# Altium footprint library EEM_FMC_Carrier.PcbLib: 109 footprints (part 7 of 7)
Each footprint in its own frame and in the unit in brackets; x right, y up, seen from the top. Pads: shape width x height; smd on the part's side, far side on the other; paste and mask are expansions set on the pad; w line width, h text height; cw(c..) or ccw(c..) is an arc to the next point about the centre after c.
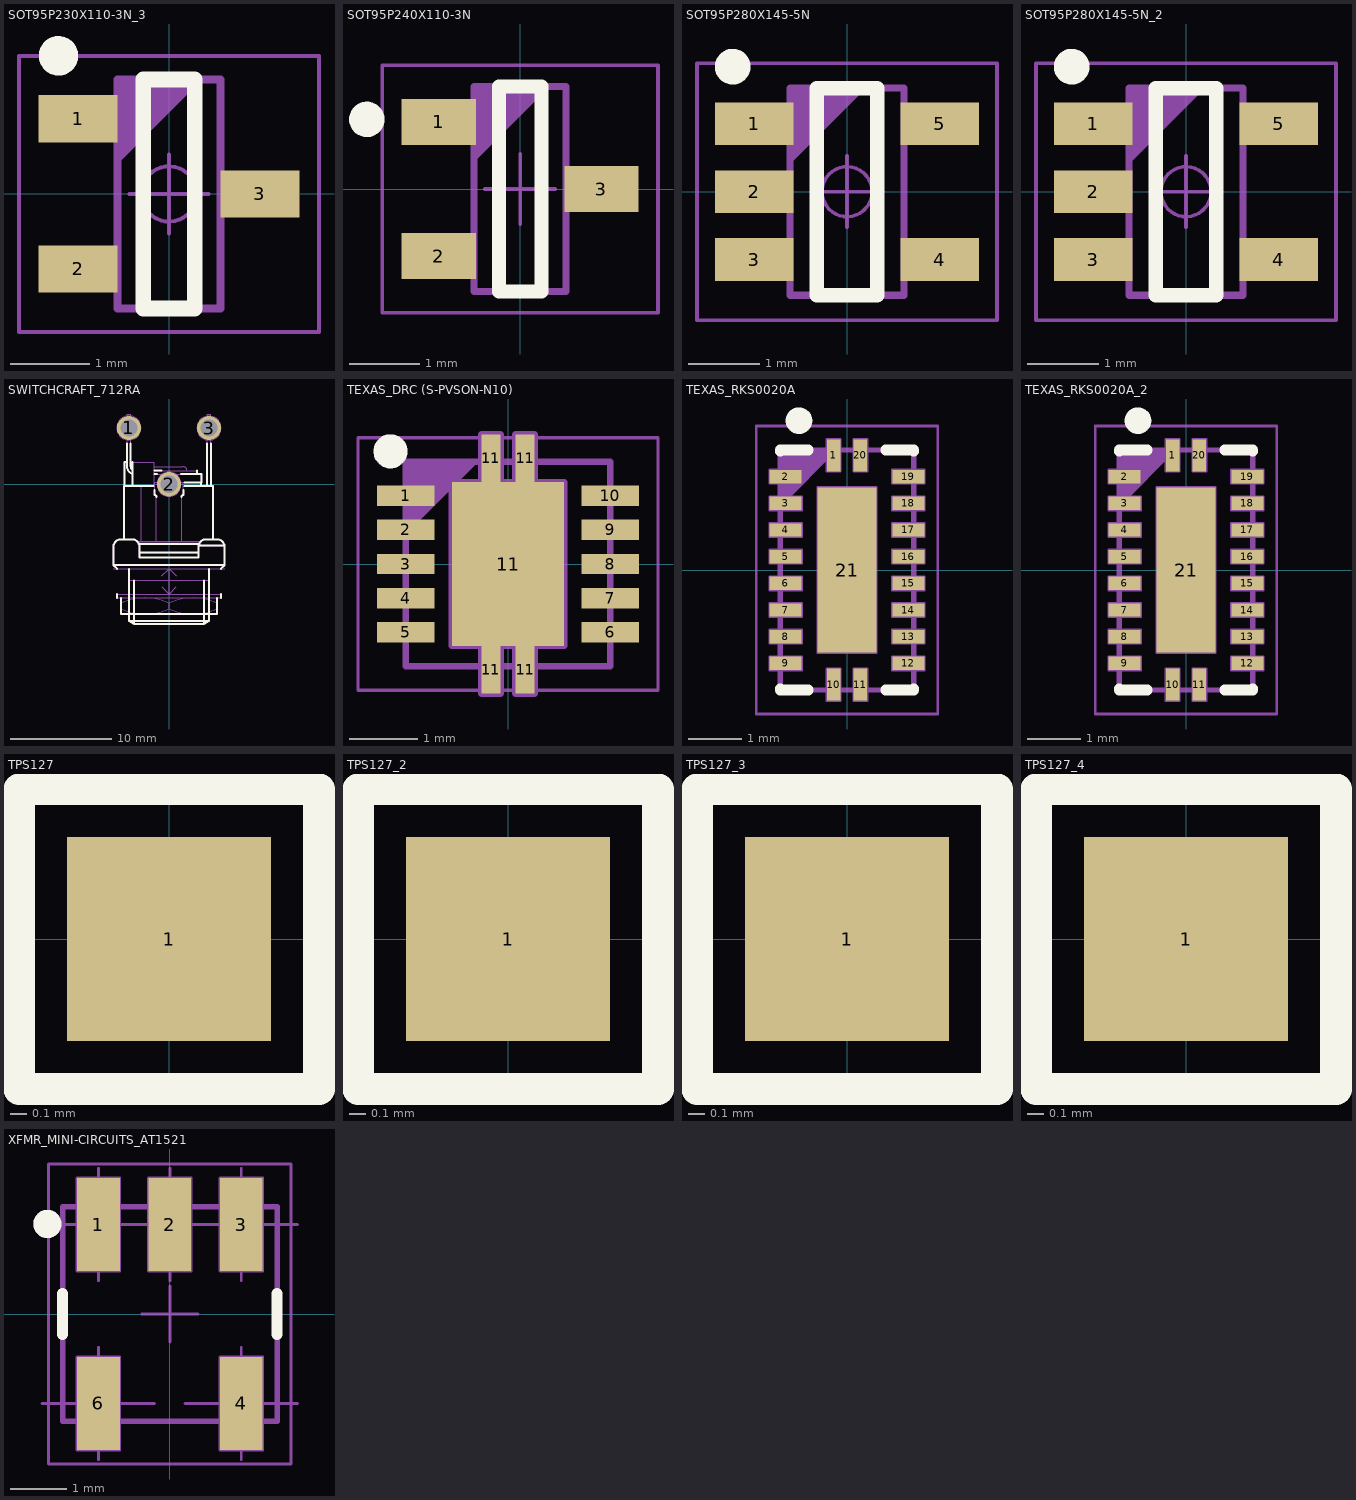
[diagram p6: the footprints below, top view; thin cyan lines are the x and y axes]

## SOT95P230X110-3N_3 [mm]
pads (3):
  rect 1x0.6 smd: 1(-1.15,0.95) 2(-1.15,-0.95) 3(1.15,0)
Top Overlay:
  circle w0.25: c-1.4,1.75 r0.125
  lines w0.2: -0.325,-1.45 0.325,-1.45 0.325,1.45 -0.325,1.45 -0.325,-1.45
Mechanical 14:
  lines w0.1: -0.65,0.45 0.35,1.45 ; -0.65,0.55 0.25,1.45 ; -0.65,0.65 0.15,1.45 ; -0.65,0.75 0.05,1.45 ; -0.65,0.85 -0.05,1.45 ; -0.65,0.95 -0.15,1.45 ; -0.65,1.05 -0.25,1.45 ; -0.65,1.15 -0.35,1.45 ; -0.65,1.25 -0.45,1.45 ; -0.65,1.35 -0.55,1.45 ; -0.65,-1.45 0.65,-1.45 0.65,1.45 -0.65,1.45 -0.65,-1.45
Mechanical 15:
  circle w0.05: c0,0 r0.35
  lines w0.05: -0.5,0 0.5,0 ; 0,-0.5 0,0.5 ; -1.9,-1.75 1.9,-1.75 1.9,1.75 -1.9,1.75 -1.9,-1.75
3D body "SOT95P230X110-3N.stp": height 1.1, standoff 0.01, extent -1.082,-1.5 1.25,1.5

## SOT95P240X110-3N [mm]
pads (3):
  rect 1.05x0.65 smd: 1(-1.15,0.95) 2(-1.15,-0.95) 3(1.15,0)
Top Overlay:
  circle w0.25: c-2.168,0.985 r0.125
  lines w0.2: -0.3,-1.45 -0.3,1.45 0.3,1.45 0.3,-1.45 -0.3,-1.45
Mechanical 14:
  lines w0.1: -0.65,0.45 0.35,1.45 ; -0.65,0.55 0.25,1.45 ; -0.65,0.65 0.15,1.45 ; -0.65,0.75 0.05,1.45 ; -0.65,0.85 -0.05,1.45 ; -0.65,0.95 -0.15,1.45 ; -0.65,1.05 -0.25,1.45 ; -0.65,1.15 -0.35,1.45 ; -0.65,1.25 -0.45,1.45 ; -0.65,1.35 -0.55,1.45 ; -0.65,-1.45 0.65,-1.45 0.65,1.45 -0.65,1.45 -0.65,-1.45
Mechanical 15:
  lines w0.05: -0.5,0 0.5,0 ; 0,-0.5 0,0.5 ; -1.95,-1.75 1.95,-1.75 1.95,1.75 -1.95,1.75 -1.95,-1.75
3D body "SOT95P240X110-3N.stp": height 1.1, standoff 0, extent -1.25,-1.5 1.25,1.5

## SOT95P280X145-5N [mm]
pads (5):
  rect 1.1x0.6 smd: 1(-1.3,0.95) 2(-1.3,0) 3(-1.3,-0.95) 4(1.3,-0.95) 5(1.3,0.95)
Top Overlay:
  circle w0.25: c-1.6,1.75 r0.125
  lines w0.2: -0.425,-1.45 -0.425,1.45 0.425,1.45 0.425,-1.45 -0.425,-1.45
Mechanical 14:
  lines w0.1: -0.8,0.45 0.2,1.45 ; -0.8,0.55 0.1,1.45 ; -0.8,0.65 0,1.45 ; -0.8,0.75 -0.1,1.45 ; -0.8,0.85 -0.2,1.45 ; -0.8,0.95 -0.3,1.45 ; -0.8,1.05 -0.4,1.45 ; -0.8,1.15 -0.5,1.45 ; -0.8,1.25 -0.6,1.45 ; -0.8,1.35 -0.7,1.45 ; -0.8,-1.45 -0.8,1.45 0.8,1.45 0.8,-1.45 -0.8,-1.45
Mechanical 15:
  circle w0.05: c0,0 r0.35
  lines w0.05: -0.5,0 0.5,0 ; 0,-0.5 0,0.5 ; -2.1,-1.8 -2.1,1.8 2.1,1.8 2.1,-1.8 -2.1,-1.8
3D body "SOT95P280X145-5N.stp": height 1.45, standoff 0, extent -1.4,-1.5 1.4,1.5

## SOT95P280X145-5N_2 [mm]
pads (5):
  rect 1.1x0.6 smd: 1(-1.3,0.95) 2(-1.3,0) 3(-1.3,-0.95) 4(1.3,-0.95) 5(1.3,0.95)
Top Overlay:
  circle w0.25: c-1.6,1.75 r0.125
  lines w0.2: -0.425,-1.45 -0.425,1.45 0.425,1.45 0.425,-1.45 -0.425,-1.45
Mechanical 14:
  lines w0.1: -0.8,0.45 0.2,1.45 ; -0.8,0.55 0.1,1.45 ; -0.8,0.65 0,1.45 ; -0.8,0.75 -0.1,1.45 ; -0.8,0.85 -0.2,1.45 ; -0.8,0.95 -0.3,1.45 ; -0.8,1.05 -0.4,1.45 ; -0.8,1.15 -0.5,1.45 ; -0.8,1.25 -0.6,1.45 ; -0.8,1.35 -0.7,1.45 ; -0.8,-1.45 -0.8,1.45 0.8,1.45 0.8,-1.45 -0.8,-1.45
Mechanical 15:
  circle w0.05: c0,0 r0.35
  lines w0.05: -0.5,0 0.5,0 ; 0,-0.5 0,0.5 ; -2.1,-1.8 -2.1,1.8 2.1,1.8 2.1,-1.8 -2.1,-1.8
3D body "SOT95P280X145-5N.stp": height 1.45, standoff 0, extent -1.4,-1.5 1.4,1.5

## SWITCHCRAFT_712RA [mm]
pads (3):
  round 2.4 hole 1.7: 1(-3.972,5.578) 2(0,0) 3(3.965,5.573)
Top Overlay:
  lines w0.2: -5.169,-11.262 -5.169,-10.881 ; -4.762,-11.262 -4.762,-12.849 4.762,-12.85 4.762,-11.262 ; -4.445,-5.464 -4.445,-0.18 -1.539,-0.18 -4.421,-0.18 -4.421,2.182 -4.15,2.182 ; -4.15,4.038 -4.15,1.755 ccw(c-3.388,1.755) -3.6,1.023 ; -3.962,-8.385 -3.962,-9.528 -3.96,-13.56 ; -3.794,4.038 -3.794,1.755 ccw(c-3.388,1.755) -3.6,1.408 ; -3.6,-0.18 -3.6,2.182 ; -3.467,-9.528 -3.467,-13.846 3.467,-13.846 ; -3.465,-13.846 -3.96,-13.56 ; -2.998,-5.921 2.998,-5.921 ; -2.946,-6.777 2.946,-6.777 ; -1.46,0.993 -1.19,0.993 ; -1.46,1.349 -0.764,1.349 ; -1.435,-0.586 -1.435,-1.064 cw(c-1.423,-1.242) -1.245,-1.242 ; 1.19,0.993 3.2,0.993 3.2,0.18 1.539,0.18 2.582,0.18 ; 1.245,-1.242 cw(c1.423,-1.242) 1.435,-1.064 1.435,-0.586 ; 2.769,0.993 2.769,1.349 ; 3.175,-0.18 3.175,0.18 ; 3.467,-9.528 3.467,-13.846 ; 3.785,-0.18 3.785,4.033 ; 3.949,-9.528 3.962,-13.56 ; 3.962,-9.528 3.962,-8.385 ; 4.144,-0.18 4.145,4.033 ; 4.369,-5.464 4.369,-0.18 ; 5.131,-8.385 5.512,-8.004 ; 5.169,-11.262 5.169,-10.881 ; -5.512,-8.004 -5.131,-8.385 -5.512,-8.004 ; -5.512,-8.004 -5.512,-6.085 ; -5.512,-8.004 -5.512,-6.085 ; -5.512,-8.004 5.512,-8.004 ; -5.512,-6.085 cw(c-4.69,-6.266) -4.944,-5.464 -3.446,-5.464 cw(c-3.813,-6.27) -2.946,-6.085 -2.946,-7.242 2.946,-7.242 2.946,-6.085 ; -3.96,-13.56 3.962,-13.56 ; 2.946,-6.085 cw(c3.813,-6.27) 3.446,-5.464 4.944,-5.464 cw(c4.69,-6.266) 5.512,-6.085 ; 2.946,-6.085 5.512,-6.085 ; 3.467,-13.846 3.962,-13.56 ; 4.369,-0.18 1.539,-0.18 4.369,-0.18 ; 5.512,-8.004 5.512,-6.085
Mechanical 8:
  circle w0.1: c3.965,5.573 r0.85
  circle w0.1: c3.965,5.573 r1.2
  circle w0.1: c-3.972,5.578 r0.85
  circle w0.1: c-3.972,5.578 r1.2
  circle w0.1: c0,0 r0.85
  circle w0.1: c0,0 r1.2
  lines w0.1: -5.512,-8.381 0,-8.385 ; -4.472,5.578 -3.972,5.578 ; -3.972,5.078 -3.972,5.578 ; -3.972,6.078 -3.972,5.578 ; -3.472,5.578 -3.972,5.578 ; -0.707,-10.174 0,-10.881 ; -0.707,-9.092 0,-8.385 ; -0.5,0 0,0 ; 0,-0.5 0,0 ; 0,0.5 0,0 ; 0.5,0 0,0 ; 0.707,-10.174 0,-10.881 ; 0.707,-9.092 0,-8.385 ; 3.465,5.573 3.965,5.573 ; 3.965,5.073 3.965,5.573 ; 3.965,6.073 3.965,5.573 ; 4.465,5.573 3.965,5.573 ; 5.512,-8.388 0,-8.385 ; 0,-10.881 0,-8.385
  text "CENTER PIN" at -3.7,0.075 h0.5
  text "SLEEVE SHUNT" at 4.225,-1.025 h0.5
  text "2.5mm" at -3.3,-10 h1
Mechanical 14:
  lines w0.1: -4.762,-12.334 ccw(c-2.381,-7.096) 0,-12.334 ccw(c2.381,-7.096) 4.762,-12.334 ; -4.762,-11.778 cw(c-2.381,-17.016) 0,-11.778 cw(c2.381,-17.016) 4.762,-11.778 ; -4.762,-11.262 -4.762,-12.849 4.762,-12.85 4.762,-11.262 ; -4.445,-5.464 -4.445,-0.18 -1.435,-0.18 -4.421,-0.18 -4.421,2.182 -4.15,2.182 ; -4.15,4.943 -4.861,4.943 -4.861,6.213 -4.15,6.213 ; -3.962,-8.385 -3.962,-9.528 ; -3.794,2.182 -1.46,2.182 -1.46,-0.18 ; -3.6,-0.18 -3.6,2.182 ; -3.6,1.023 cw(c-3.388,1.755) -4.15,1.755 -4.15,6.962 -3.794,6.962 -3.794,1.755 ccw(c-3.388,1.755) -3.6,1.408 ; -3.467,-9.528 -3.467,-13.846 3.467,-13.846 ; -3.465,-13.846 -3.96,-13.56 ; -3.185,-5.645 3.185,-5.645 ; -3.134,-5.7 3.134,-5.7 ; -2.998,-5.921 2.998,-5.921 ; -2.946,-6.777 2.946,-6.777 ; -2.766,-5.645 -2.766,-0.18 ; -1.46,0.18 3.2,0.18 3.2,0.993 -1.46,0.993 ; -1.46,1.349 2.769,1.349 2.769,0.993 ; -1.46,1.742 1.385,1.742 cw(c1.385,1.349) 1.778,1.349 ; -1.435,0.18 -1.435,-1.064 cw(c-1.423,-1.242) -1.245,-1.242 -1.245,-5.645 ; 0,-12.337 0,-11.781 ; 0.178,0.18 2.582,0.18 ; 1.245,-5.645 1.245,-1.242 cw(c1.423,-1.242) 1.435,-1.064 1.435,0.18 ; 3.175,-0.18 3.175,0.18 ; 3.467,-9.528 3.467,-13.846 ; 3.785,-0.18 3.785,6.949 4.145,6.949 4.144,-0.18 ; 3.949,-9.528 3.962,-13.56 ; 3.962,-8.385 3.962,-9.528 -3.962,-9.528 ; 4.145,4.938 4.851,4.938 4.851,6.208 4.145,6.208 ; 4.369,-5.464 4.369,-0.18 ; -5.512,-8.004 -5.131,-8.385 ; -5.512,-8.004 -5.512,-6.085 ; -5.512,-8.004 -5.512,-6.085 ; -5.512,-8.004 -5.131,-8.385 ; -5.512,-8.004 5.512,-8.004 ; -5.512,-6.085 cw(c-4.69,-6.266) -4.944,-5.464 -3.446,-5.464 cw(c-3.813,-6.27) -2.946,-6.085 -2.946,-7.242 2.946,-7.242 2.946,-6.085 ; -5.131,-8.385 5.131,-8.385 5.512,-8.004 ; -3.962,-9.528 -3.96,-13.56 ; -3.96,-13.56 3.962,-13.56 ; 1.778,1.349 1.778,1.349 ; 2.946,-6.085 cw(c3.813,-6.27) 3.446,-5.464 4.944,-5.464 cw(c4.69,-6.266) 5.512,-6.085 ; 2.946,-6.085 5.512,-6.085 ; 3.467,-13.846 3.962,-13.56 ; 4.369,-0.18 1.435,-0.18 4.369,-0.18 ; 5.512,-8.004 5.512,-6.085 ; -5.169,-11.262 5.169,-11.262 5.169,-10.881 -5.169,-10.881 -5.169,-11.262
3D body "SWITCHCRAFT_712RA_Part1.stp": height 13.89, standoff -3.56, extent -5.512,-13.845 5.512,6.962
3D body "SWITCHCRAFT_712RA_Part2.stp": height 13.88, standoff 2.88, extent -5.169,-12.849 5.169,-10.881

## TEXAS_DRC (S-PVSON-N10) [mm]
pads (15):
  rect 0.85x0.3 smd: 1(-1.5,1) 2(-1.5,0.5) 3(-1.5,0) 4(-1.5,-0.5) 5(-1.5,-1) 6(1.5,-1) 7(1.5,-0.5) 8(1.5,0) 9(1.5,0.5) 10(1.5,1)
  rect 0.28x0.7 smd: 11(-0.25,-1.55) 11(-0.25,1.55) 11(0.25,-1.55) 11(0.25,1.55)
  rect 1.65x2.4 smd: 11(0,0)
Top Overlay:
  circle w0.25: c-1.723,1.653 r0.125
Mechanical 8:
  lines w0.1: -0.5,0 0,0 ; 0,-0.5 0,0 ; 0,0.5 0,0 ; 0.5,0 0,0 ; -0.825,-1.2 -0.39,-1.2 -0.39,-1.9 -0.11,-1.9 -0.11,-1.2 0.11,-1.2 0.11,-1.9 0.39,-1.9 0.39,-1.2 0.825,-1.2 0.825,1.2 0.39,1.2 0.39,1.9 0.11,1.9 0.11,1.2 -0.11,1.2 -0.11,1.9 -0.39,1.9 -0.39,1.2 -0.825,1.2 -0.825,-1.2
Mechanical 14:
  lines w0.1: -1.5,0.5 -0.5,1.5 ; -1.5,0.6 -0.6,1.5 ; -1.5,0.7 -0.7,1.5 ; -1.5,0.8 -0.8,1.5 ; -1.5,0.9 -0.9,1.5 ; -1.5,1 -1,1.5 ; -1.5,1.1 -1.1,1.5 ; -1.5,1.2 -1.2,1.5 ; -1.5,1.3 -1.3,1.5 ; -1.5,1.4 -1.4,1.5 ; -1.5,-1.5 -1.5,1.5 1.5,1.5 1.5,-1.5 -1.5,-1.5
Mechanical 15:
  lines w0.05: -0.5,0 0.5,0 ; 0,-0.5 0,0.5 ; -2.2,-1.85 2.2,-1.85 2.2,1.85 -2.2,1.85 -2.2,-1.85
3D body "TEXAS_DRC (S-PVSON-N10).stp": height 1, standoff 0, extent -1.575,-1.575 1.575,1.575

## TEXAS_RKS0020A [mm]
pads (21):
  rect 0.25x0.6 smd: 1(-0.25,2.15) 10(-0.25,-2.15) 11(0.25,-2.15) 20(0.25,2.15)
  rect 0.6x0.25 smd: 2(-1.15,1.75) 3(-1.15,1.25) 4(-1.15,0.75) 5(-1.15,0.25) 6(-1.15,-0.25) 7(-1.15,-0.75) 8(-1.15,-1.25) 9(-1.15,-1.75) 12(1.15,-1.75) 13(1.15,-1.25) 14(1.15,-0.75) 15(1.15,-0.25) 16(1.15,0.25) 17(1.15,0.75) 18(1.15,1.25) 19(1.15,1.75)
  rect 1.1x3.1 smd: 21(0,0)
Top Overlay:
  circle w0.25: c-0.9,2.8 r0.125
  lines w0.2: -1.25,-2.225 -1.25,-2.25 -0.725,-2.25 ; -1.25,2.225 -1.25,2.25 -0.725,2.25 ; 0.725,-2.25 1.25,-2.25 1.25,-2.225 ; 0.725,2.25 1.25,2.25 1.25,2.225
Mechanical 8:
  lines w0.05: -0.5,0 0,0 ; 0,-0.5 0,0 ; 0,0.5 0,0 ; 0.5,0 0,0 ; -1.45,-1.875 -1.15,-1.75 -1.45,-1.625 ; -1.45,-1.875 -1.45,-1.625 ; -1.45,-1.875 -0.85,-1.875 -0.85,-1.625 -1.45,-1.625 ; -1.45,-1.375 -1.15,-1.25 -1.45,-1.125 ; -1.45,-1.375 -1.45,-1.125 ; -1.45,-1.375 -0.85,-1.375 -0.85,-1.125 -1.45,-1.125 ; -1.45,-0.875 -1.15,-0.75 -1.45,-0.625 ; -1.45,-0.875 -1.45,-0.625 ; -1.45,-0.875 -0.85,-0.875 -0.85,-0.625 -1.45,-0.625 ; -1.45,-0.375 -1.15,-0.25 -1.45,-0.125 ; -1.45,-0.375 -1.45,-0.125 ; -1.45,-0.375 -0.85,-0.375 -0.85,-0.125 -1.45,-0.125 ; -1.45,0.125 -1.15,0.25 -1.45,0.375 ; -1.45,0.125 -1.45,0.375 ; -1.45,0.125 -0.85,0.125 -0.85,0.375 -1.45,0.375 ; -1.45,0.625 -1.15,0.75 -1.45,0.875 ; -1.45,0.625 -1.45,0.875 ; -1.45,0.625 -0.85,0.625 -0.85,0.875 -1.45,0.875 ; -1.45,1.125 -1.15,1.25 -1.45,1.375 ; -1.45,1.125 -1.45,1.375 ; -1.45,1.125 -0.85,1.125 -0.85,1.375 -1.45,1.375 ; -1.45,1.625 -1.15,1.75 -1.45,1.875 ; -1.45,1.625 -1.45,1.875 ; -1.45,1.625 -0.85,1.625 -0.85,1.875 -1.45,1.875 ; -0.375,-2.45 -0.25,-2.15 -0.125,-2.45 ; -0.375,-2.45 -0.125,-2.45 ; -0.375,-2.45 -0.375,-1.85 -0.125,-1.85 -0.125,-2.45 ; -0.375,2.45 -0.25,2.15 -0.125,2.45 ; -0.375,2.45 -0.125,2.45 ; -0.375,2.45 -0.375,1.85 -0.125,1.85 -0.125,2.45 ; 0.125,-2.45 0.25,-2.15 0.375,-2.45 ; 0.125,-2.45 0.375,-2.45 ; 0.125,-2.45 0.125,-1.85 0.375,-1.85 0.375,-2.45 ; 0.125,2.45 0.25,2.15 0.375,2.45 ; 0.125,2.45 0.375,2.45 ; 0.125,2.45 0.125,1.85 0.375,1.85 0.375,2.45 ; 1.45,-1.875 1.15,-1.75 1.45,-1.625 ; 1.45,-1.875 1.45,-1.625 ; 1.45,-1.875 0.85,-1.875 0.85,-1.625 1.45,-1.625 ; 1.45,-1.375 1.15,-1.25 1.45,-1.125 ; 1.45,-1.375 1.45,-1.125 ; 1.45,-1.375 0.85,-1.375 0.85,-1.125 1.45,-1.125 ; 1.45,-0.875 1.15,-0.75 1.45,-0.625 ; 1.45,-0.875 1.45,-0.625 ; 1.45,-0.875 0.85,-0.875 0.85,-0.625 1.45,-0.625 ; 1.45,-0.375 1.15,-0.25 1.45,-0.125 ; 1.45,-0.375 1.45,-0.125 ; 1.45,-0.375 0.85,-0.375 0.85,-0.125 1.45,-0.125 ; 1.45,0.125 1.15,0.25 1.45,0.375 ; 1.45,0.125 1.45,0.375 ; 1.45,0.125 0.85,0.125 0.85,0.375 1.45,0.375 ; 1.45,0.625 1.15,0.75 1.45,0.875 ; 1.45,0.625 1.45,0.875 ; 1.45,0.625 0.85,0.625 0.85,0.875 1.45,0.875 ; 1.45,1.125 1.15,1.25 1.45,1.375 ; 1.45,1.125 1.45,1.375 ; 1.45,1.125 0.85,1.125 0.85,1.375 1.45,1.375 ; 1.45,1.625 1.15,1.75 1.45,1.875 ; 1.45,1.625 1.45,1.875 ; 1.45,1.625 0.85,1.625 0.85,1.875 1.45,1.875 ; -0.55,-1.55 -0.55,1.55 0.55,1.55 0.55,-1.55 -0.55,-1.55
Mechanical 14:
  lines w0.1: -1.25,1.25 -0.25,2.25 ; -1.25,1.35 -0.35,2.25 ; -1.25,1.45 -0.45,2.25 ; -1.25,1.55 -0.55,2.25 ; -1.25,1.65 -0.65,2.25 ; -1.25,1.75 -0.75,2.25 ; -1.25,1.85 -0.85,2.25 ; -1.25,1.95 -0.95,2.25 ; -1.25,2.05 -1.05,2.25 ; -1.25,2.15 -1.15,2.25 ; -1.25,-2.25 -1.25,2.25 1.25,2.25 1.25,-2.25 -1.25,-2.25
Mechanical 15:
  lines w0.05: -1.7,-2.7 -1.7,2.7 1.7,2.7 1.7,-2.7 -1.7,-2.7
3D body "TEXAS_RKS0020A.stp": height 1, standoff 0, extent -1.25,-2.25 1.25,2.25

## TEXAS_RKS0020A_2 [mm]
pads (21):
  rect 0.25x0.6 smd: 1(-0.25,2.15) 10(-0.25,-2.15) 11(0.25,-2.15) 20(0.25,2.15)
  rect 0.6x0.25 smd: 2(-1.15,1.75) 3(-1.15,1.25) 4(-1.15,0.75) 5(-1.15,0.25) 6(-1.15,-0.25) 7(-1.15,-0.75) 8(-1.15,-1.25) 9(-1.15,-1.75) 12(1.15,-1.75) 13(1.15,-1.25) 14(1.15,-0.75) 15(1.15,-0.25) 16(1.15,0.25) 17(1.15,0.75) 18(1.15,1.25) 19(1.15,1.75)
  rect 1.1x3.1 smd: 21(0,0)
Top Overlay:
  circle w0.25: c-0.9,2.8 r0.125
  lines w0.2: -1.25,-2.225 -1.25,-2.25 -0.725,-2.25 ; -1.25,2.225 -1.25,2.25 -0.725,2.25 ; 0.725,-2.25 1.25,-2.25 1.25,-2.225 ; 0.725,2.25 1.25,2.25 1.25,2.225
Mechanical 8:
  lines w0.05: -0.5,0 0,0 ; 0,-0.5 0,0 ; 0,0.5 0,0 ; 0.5,0 0,0 ; -1.45,-1.875 -0.85,-1.875 -0.85,-1.625 -1.45,-1.625 ; -1.45,-1.875 -1.45,-1.625 ; -1.45,-1.875 -1.15,-1.75 -1.45,-1.625 ; -1.45,-1.375 -0.85,-1.375 -0.85,-1.125 -1.45,-1.125 ; -1.45,-1.375 -1.45,-1.125 ; -1.45,-1.375 -1.15,-1.25 -1.45,-1.125 ; -1.45,-0.875 -0.85,-0.875 -0.85,-0.625 -1.45,-0.625 ; -1.45,-0.875 -1.45,-0.625 ; -1.45,-0.875 -1.15,-0.75 -1.45,-0.625 ; -1.45,-0.375 -0.85,-0.375 -0.85,-0.125 -1.45,-0.125 ; -1.45,-0.375 -1.45,-0.125 ; -1.45,-0.375 -1.15,-0.25 -1.45,-0.125 ; -1.45,0.125 -0.85,0.125 -0.85,0.375 -1.45,0.375 ; -1.45,0.125 -1.45,0.375 ; -1.45,0.125 -1.15,0.25 -1.45,0.375 ; -1.45,0.625 -0.85,0.625 -0.85,0.875 -1.45,0.875 ; -1.45,0.625 -1.45,0.875 ; -1.45,0.625 -1.15,0.75 -1.45,0.875 ; -1.45,1.125 -0.85,1.125 -0.85,1.375 -1.45,1.375 ; -1.45,1.125 -1.45,1.375 ; -1.45,1.125 -1.15,1.25 -1.45,1.375 ; -1.45,1.625 -0.85,1.625 -0.85,1.875 -1.45,1.875 ; -1.45,1.625 -1.45,1.875 ; -1.45,1.625 -1.15,1.75 -1.45,1.875 ; -0.375,-2.45 -0.375,-1.85 -0.125,-1.85 -0.125,-2.45 ; -0.375,-2.45 -0.125,-2.45 ; -0.375,-2.45 -0.25,-2.15 -0.125,-2.45 ; -0.375,2.45 -0.375,1.85 -0.125,1.85 -0.125,2.45 ; -0.375,2.45 -0.125,2.45 ; -0.375,2.45 -0.25,2.15 -0.125,2.45 ; 0.125,-2.45 0.125,-1.85 0.375,-1.85 0.375,-2.45 ; 0.125,-2.45 0.375,-2.45 ; 0.125,-2.45 0.25,-2.15 0.375,-2.45 ; 0.125,2.45 0.125,1.85 0.375,1.85 0.375,2.45 ; 0.125,2.45 0.375,2.45 ; 0.125,2.45 0.25,2.15 0.375,2.45 ; 1.45,-1.875 0.85,-1.875 0.85,-1.625 1.45,-1.625 ; 1.45,-1.875 1.45,-1.625 ; 1.45,-1.875 1.15,-1.75 1.45,-1.625 ; 1.45,-1.375 0.85,-1.375 0.85,-1.125 1.45,-1.125 ; 1.45,-1.375 1.45,-1.125 ; 1.45,-1.375 1.15,-1.25 1.45,-1.125 ; 1.45,-0.875 0.85,-0.875 0.85,-0.625 1.45,-0.625 ; 1.45,-0.875 1.45,-0.625 ; 1.45,-0.875 1.15,-0.75 1.45,-0.625 ; 1.45,-0.375 0.85,-0.375 0.85,-0.125 1.45,-0.125 ; 1.45,-0.375 1.45,-0.125 ; 1.45,-0.375 1.15,-0.25 1.45,-0.125 ; 1.45,0.125 0.85,0.125 0.85,0.375 1.45,0.375 ; 1.45,0.125 1.45,0.375 ; 1.45,0.125 1.15,0.25 1.45,0.375 ; 1.45,0.625 0.85,0.625 0.85,0.875 1.45,0.875 ; 1.45,0.625 1.45,0.875 ; 1.45,0.625 1.15,0.75 1.45,0.875 ; 1.45,1.125 0.85,1.125 0.85,1.375 1.45,1.375 ; 1.45,1.125 1.45,1.375 ; 1.45,1.125 1.15,1.25 1.45,1.375 ; 1.45,1.625 0.85,1.625 0.85,1.875 1.45,1.875 ; 1.45,1.625 1.45,1.875 ; 1.45,1.625 1.15,1.75 1.45,1.875 ; -0.55,-1.55 0.55,-1.55 0.55,1.55 -0.55,1.55 -0.55,-1.55
Mechanical 14:
  lines w0.1: -1.25,1.25 -0.25,2.25 ; -1.25,1.35 -0.35,2.25 ; -1.25,1.45 -0.45,2.25 ; -1.25,1.55 -0.55,2.25 ; -1.25,1.65 -0.65,2.25 ; -1.25,1.75 -0.75,2.25 ; -1.25,1.85 -0.85,2.25 ; -1.25,1.95 -0.95,2.25 ; -1.25,2.05 -1.05,2.25 ; -1.25,2.15 -1.15,2.25 ; -1.25,-2.25 1.25,-2.25 1.25,2.25 -1.25,2.25 -1.25,-2.25
Mechanical 15:
  lines w0.05: -1.7,-2.7 1.7,-2.7 1.7,2.7 -1.7,2.7 -1.7,-2.7
3D body "TEXAS_RKS0020A.stp": height 1, standoff 0, extent -1.25,-2.25 1.25,2.25

## TPS127 [mm]
pads (1):
  rect 1.27x1.27 smd paste-1.27: 1(0,0)
Top Overlay:
  lines w0.2: -0.935,-0.935 0.935,-0.935 0.935,0.935 -0.935,0.935 -0.935,-0.935
Mechanical 14:
  lines w0.1: -0.585,-0.585 0.585,-0.585 0.585,0.585 -0.585,0.585 -0.585,-0.585

## TPS127_2 [mm]
pads (1):
  rect 1.27x1.27 smd paste-1.27: 1(0,0)
Top Overlay:
  lines w0.2: -0.935,-0.935 0.935,-0.935 0.935,0.935 -0.935,0.935 -0.935,-0.935
Mechanical 14:
  lines w0.1: -0.935,-0.935 0.935,-0.935 0.935,0.935 -0.935,0.935 -0.935,-0.935

## TPS127_3 [mm]
pads (1):
  rect 1.27x1.27 smd paste-1.27: 1(0,0)
Top Overlay:
  lines w0.2: -0.935,-0.935 -0.935,0.935 0.935,0.935 0.935,-0.935 -0.935,-0.935
Mechanical 14:
  lines w0.1: -0.935,-0.935 -0.935,0.935 0.935,0.935 0.935,-0.935 -0.935,-0.935

## TPS127_4 [mm]
pads (1):
  rect 1.27x1.27 smd paste-1.27: 1(0,0)
Top Overlay:
  lines w0.2: -0.935,-0.935 0.935,-0.935 0.935,0.935 -0.935,0.935 -0.935,-0.935
Mechanical 14:
  lines w0.1: -0.585,-0.585 0.585,-0.585 0.585,0.585 -0.585,0.585 -0.585,-0.585

## XFMR_MINI-CIRCUITS_AT1521 [mm]
pads (5):
  rect 0.76x1.65 smd: 1(-1.27,1.59) 2(0,1.59) 3(1.27,1.59) 4(1.27,-1.59) 6(-1.27,-1.59)
Top Overlay:
  circle w0.25: c-2.175,1.6 r0.125
  lines w0.2: -1.905,-0.365 -1.905,0.365 ; 1.905,-0.365 1.905,0.365
Mechanical 8:
  lines w0.05: -2.27,-1.59 -0.27,-1.59 ; -2.27,1.59 -0.27,1.59 ; -1.27,-2.59 -1.27,-0.59 ; -1.27,0.59 -1.27,2.59 ; -1,1.59 1,1.59 ; -0.5,0 0,0 ; 0,-0.5 0,0 ; 0,0.5 0,0 ; 0,0.59 0,2.59 ; 0.27,-1.59 2.27,-1.59 ; 0.27,1.59 2.27,1.59 ; 0.5,0 0,0 ; 1.27,-2.59 1.27,-0.59 ; 1.27,0.59 1.27,2.59 ; -1.65,-2.415 -0.89,-2.415 -0.89,-0.765 -1.65,-0.765 -1.65,-2.415 ; -1.65,0.765 -0.89,0.765 -0.89,2.415 -1.65,2.415 -1.65,0.765 ; -0.38,0.765 0.38,0.765 0.38,2.415 -0.38,2.415 -0.38,0.765 ; 0.89,-2.415 1.65,-2.415 1.65,-0.765 0.89,-0.765 0.89,-2.415 ; 0.89,0.765 1.65,0.765 1.65,2.415 0.89,2.415 0.89,0.765
Mechanical 14:
  circle w0.25: c-2.175,1.6 r0.125
  lines w0.1: -1.625,-1.905 -1.625,-0.885 -0.915,-0.885 -0.915,-1.905 ; -1.625,1.905 -1.625,0.885 -0.915,0.885 -0.915,1.905 ; -0.355,1.905 -0.355,0.885 0.355,0.885 0.355,1.905 ; 0.915,-1.905 0.915,-0.885 1.625,-0.885 1.625,-1.905 ; 0.915,1.905 0.915,0.885 1.625,0.885 1.625,1.905 ; -1.905,-1.905 -1.905,1.905 1.905,1.905 1.905,-1.905 -1.905,-1.905
Mechanical 15:
  lines w0.05: -2.155,-2.665 -2.155,2.665 2.155,2.665 2.155,-2.665 -2.155,-2.665
3D body "XFMR_MINI-CIRCUITS_AT1521.stp": height 4.06, standoff 0, extent -1.905,-1.905 1.905,1.905